# EAGLE library part SSM6J414TU (library ssm6j414tu)
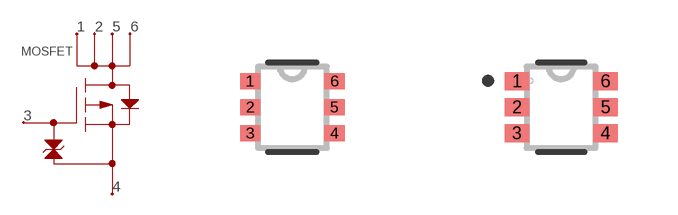
[diagram p0: symbol with the pads of UF6_TOS; footprints UF6_TOS, UF6_TOS-M]

Designator prefix MOSFET

## SSM6J414TU (COPYRIGHT: Copyright (C) 2021 Ultra Librarian. All rights reserved.; DIGI-KEY_PART_NUMBER_1: SSM6J414TULF(TCT-ND; DIGI-KEY_PART_NUMBER_2: SSM6J414TULF(TDKR-ND; DIGI-KEY_PART_NUMBER_3: SSM6J414TULF(TTR-ND; DIGI-KEY_PART_NUMBER_4: SSM6J414TULFCT-ND; DIGI-KEY_PART_NUMBER_5: SSM6J414TULFDKR-ND; DIGI-KEY_PART_NUMBER_6: SSM6J414TULFTR-ND; MANUFACTURER_PART_NUMBER: SSM6J414TU; MFR_NAME: Toshiba Electronic Devices & Storage Co.)  [UF6_TOS]
1  1  pas
2  2  pas
3  3  pas
4  4  pas
5  5  pas
6  6  pas

## SSM6J414TUUF6_TOS-M (COPYRIGHT: Copyright (C) 2021 Ultra Librarian. All rights reserved.; DIGI-KEY_PART_NUMBER_1: SSM6J414TULF(TCT-ND; DIGI-KEY_PART_NUMBER_2: SSM6J414TULF(TDKR-ND; DIGI-KEY_PART_NUMBER_3: SSM6J414TULF(TTR-ND; DIGI-KEY_PART_NUMBER_4: SSM6J414TULFCT-ND; DIGI-KEY_PART_NUMBER_5: SSM6J414TULFDKR-ND; DIGI-KEY_PART_NUMBER_6: SSM6J414TULFTR-ND; MANUFACTURER_PART_NUMBER: SSM6J414TU; MFR_NAME: Toshiba Electronic Devices & Storage Co.)  [UF6_TOS-M]
Pads as for UF6_TOS

## SSM6J414TUUF6_TOS-L (COPYRIGHT: Copyright (C) 2021 Ultra Librarian. All rights reserved.; DIGI-KEY_PART_NUMBER_1: SSM6J414TULF(TCT-ND; DIGI-KEY_PART_NUMBER_2: SSM6J414TULF(TDKR-ND; DIGI-KEY_PART_NUMBER_3: SSM6J414TULF(TTR-ND; DIGI-KEY_PART_NUMBER_4: SSM6J414TULFCT-ND; DIGI-KEY_PART_NUMBER_5: SSM6J414TULFDKR-ND; DIGI-KEY_PART_NUMBER_6: SSM6J414TULFTR-ND; MANUFACTURER_PART_NUMBER: SSM6J414TU; MFR_NAME: Toshiba Electronic Devices & Storage Co.)  [UF6_TOS-L]
Pads as for UF6_TOS

## Footprint UF6_TOS (pad centres in mm)
smd 0.508 x 0.406: 1 -1.054,0.65; 2 -1.054,0; 3 -1.054,-0.65; 4 1.054,-0.65; 5 1.054,0; 6 1.054,0.65

## Footprint UF6_TOS-M (pad centres in mm)
smd 0.61 x 0.457: 1 -1.105,0.65; 2 -1.105,0; 3 -1.105,-0.65; 4 1.105,-0.65; 5 1.105,0; 6 1.105,0.65

## Footprint UF6_TOS-L (pad centres in mm)
smd 0.406 x 0.356: 1 -1.003,0.65; 2 -1.003,0; 3 -1.003,-0.65; 4 1.003,-0.65; 5 1.003,0; 6 1.003,0.65